# Altium footprint library ADCS board.PcbLib: 8 footprints
Each footprint in its own frame and in the unit in brackets; x right, y up, seen from the top. Pads: shape width x height; smd on the part's side, far side on the other; paste and mask are expansions set on the pad; w line width, h text height; cw(c..) or ccw(c..) is an arc to the next point about the centre after c.
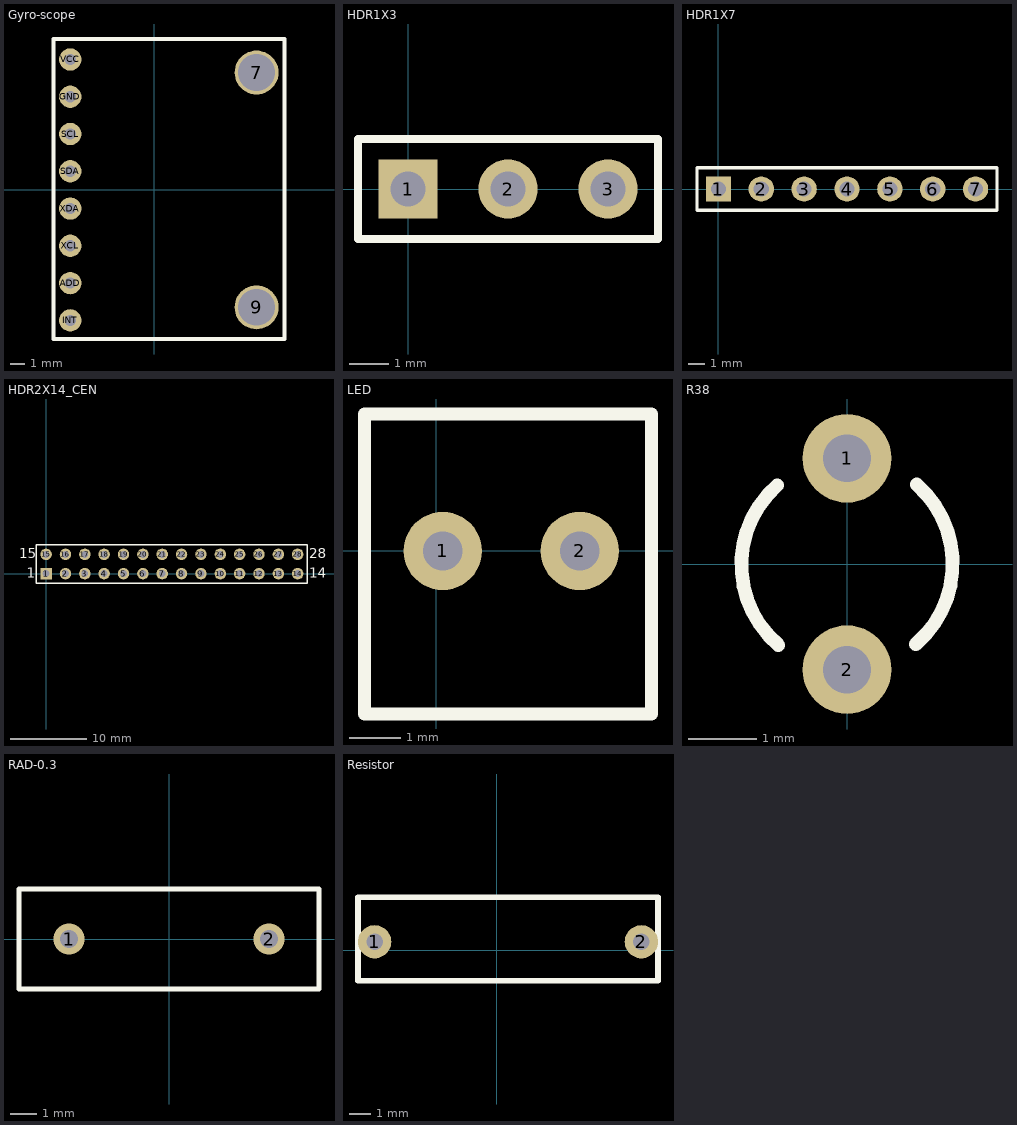
[diagram p0: the footprints below, top view; thin cyan lines are the x and y axes]

## Gyro-scope [mil]
height 377.95
pads (10):
  round 118.11 hole 98.43: 7(275,315) 9(275,-315)
  round 60 hole 30: ADD(-225,-250) GND(-225,250) INT(-225,-350) SCL(-225,150) SDA(-225,50) VCC(-225,350) XCL(-225,-150) XDA(-225,-50)
Top Overlay:
  lines w10: -270,-400 -270,405 350,405 350,-400 -270,-400
3D body "MPU_6050.step": height 59.06, standoff -59.06, extent -265,-403.54 364.92,403.54
3D body: height 10, standoff 0, extent -570,140 -570,140
3D body: height 10, standoff 0, extent -575,155 -575,155
3D body: height 10, standoff 0, extent -680,205 -680,205
3D body: height 10, standoff 0, extent 330,375 330,375
3D body: height 10, standoff 0, extent 5,40 5,40

## HDR1X3 [mm] "Connector; Header; 3 Position"
height 9.6
pads (3):
  rect 1.5x1.5 hole 0.9: 1(0,0)
  round 1.5 hole 0.9: 2(2.54,0) 3(5.08,0)
Top Overlay:
  lines w0.2: -1.27,-1.27 6.35,-1.27 6.35,1.27 -1.27,1.27 -1.27,-1.27

## HDR1X7 [mm] "Connector; Header; 7 Position"
height 9.6
pads (7):
  rect 1.5x1.5 hole 0.9: 1(0,0)
  round 1.5 hole 0.9: 2(2.54,0) 3(5.08,0) 4(7.62,0) 5(10.16,0) 6(12.7,0) 7(15.24,0)
Top Overlay:
  lines w0.2: -1.27,-1.27 -1.27,1.27 16.51,1.27 16.51,-1.27 -1.27,-1.27

## HDR2X14_CEN [mm] "Connector; Header; 14x2 Position"
height 9.6
pads (28):
  rect 1.5x1.5 hole 0.9: 1(0,0)
  round 1.5 hole 0.9: 2(2.54,0) 3(5.08,0) 4(7.62,0) 5(10.16,0) 6(12.7,0) 7(15.24,0) 8(17.78,0) 9(20.32,0) 10(22.86,0) 11(25.4,0) 12(27.94,0) 13(30.48,0) 14(33.02,0) 15(0,2.54) 16(2.54,2.54) 17(5.08,2.54) 18(7.62,2.54) 19(10.16,2.54) 20(12.7,2.54) 21(15.24,2.54) 22(17.78,2.54) 23(20.32,2.54) 24(22.86,2.54) 25(25.4,2.54) 26(27.94,2.54) 27(30.48,2.54) 28(33.02,2.54)
Top Overlay:
  lines w0.2: -1.27,-1.27 -1.27,3.81 34.29,3.81 34.29,-1.27 -1.27,-1.27
  text "28" at 34.544,2.032 h1.27
  text "14" at 34.544,-0.508 h1.27
  text "1" at -2.54,-0.508 h1.27
  text "15" at -3.556,2.032 h1.27

## LED [mil]
height 377.95
pads (2):
  round 60 hole 30: 1(5,0) 2(110,0)
Top Overlay:
  lines w10: -55,-125 165,-125 165,105 -55,105 -55,-125
3D body "Led Lamp 5 mm.STEP": height 338.58, standoff -1062.99, extent -56.14,-131.14 158.43,101.14

## R38 [mm] "Crystal, Thru-Hole; 2 Leads; Body 3.1 x 8.2 mm (Dia.xH)"
height 8.2
pads (2):
  round 1.3 hole 0.7: 1(0,1.55) 2(0,-1.55)
Top Overlay:
  lines w0.2: -1.022,1.155 ccw(c0,-0.01) -1.006,-1.189 ; 1.006,-1.179 ccw(c0,0) 1.022,1.165

## RAD-0.3 [mm] "Radial Cap, Thru-Hole; 2 Leads; 0.3 in Pin Spacing"
height 6
pads (2):
  round 1.2 hole 0.7: 1(-3.81,0) 2(3.81,0)
Top Overlay:
  lines w0.2: -5.715,-1.905 5.715,-1.905 5.715,1.905 -5.715,1.905 -5.715,-1.905

## Resistor [mil]
height 377.95
pads (2):
  round 60 hole 30: 1(-220,15) 2(260,15)
Top Overlay:
  lines w10: -250,-55 -250,95 290,95 290,-55 -250,-55
3D body "User Library-Res50-Axial 0_5W-330R.STEP": height 148.62, standoff -220.47, extent -244.76,-58.81 284.77,88.82